# Altium schematic symbol library schematics.SchLib: 3 symbols
Pins are listed as number, name and electrical type; pins without a type are passive.

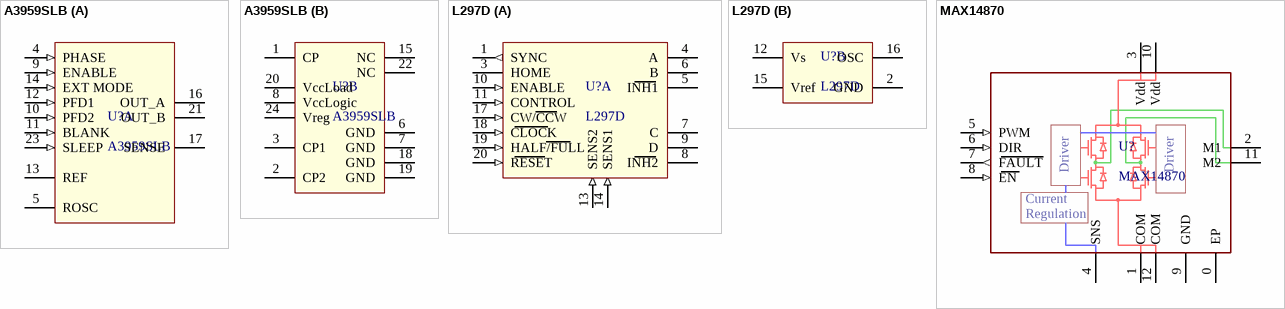
[diagram p0: symbols A3959SLB to MAX14870]

## A3959SLB
designator U?
A3959SLB PWM Motor Driver
footprint LC-SOIC-24_300mil
part A pins: 4 PHASE (in), 5 ROSC, 9 ENABLE (in), 10 PFD2 (in), 11 BLANK (in), 12 PFD1 (in), 13 REF, 14 EXT MODE (in), 16 OUT_A, 17 SENSE, 21 OUT_B, 23 SLEEP (in)
part B pins: 1 CP, 2 CP2, 3 CP1, 6 GND, 7 GND, 8 VccLogic, 15 NC, 18 GND, 19 GND, 20 VccLoad, 22 NC, 24 Vreg

## L297D
designator U?
L297D Motor Controller
footprint LC-SOIC-20_300mil
part A pins: 1 SYNC (out), 3 HOME (oc), 4 A, 5 INH1, 6 B, 7 C, 8 INH2, 9 D, 10 ENABLE (in), 11 CONTROL (in), 13 SENS2 (in), 14 SENS1 (in), 17 CW/CCW (in), 18 CLOCK (in), 19 HALF/FULL (in), 20 RESET (in)
part B pins: 2 GND, 12 Vs, 15 Vref, 16 OSC

## MAX14870
designator U?
MAX14870 DC Motor driver; Vcc_max: 36 V; Vcc_min: 4.5 V
footprint LC-TDFN-12_EP_MAXIM
pins: 0 EP, 1 COM, 2 M1, 3 Vdd, 4 SNS, 5 PWM (in), 6 DIR (in), 7 FAULT (out), 8 EN (in), 9 GND, 10 Vdd, 11 M2, 12 COM
text: Driver; Current; Regulation